# Altium footprint library HGH.PcbLib: 336 footprints (part 5 of 21)
Each footprint in its own frame and in the unit in brackets; x right, y up, seen from the top. Pads: shape width x height; smd on the part's side, far side on the other; paste and mask are expansions set on the pad; w line width, h text height; cw(c..) or ccw(c..) is an arc to the next point about the centre after c.
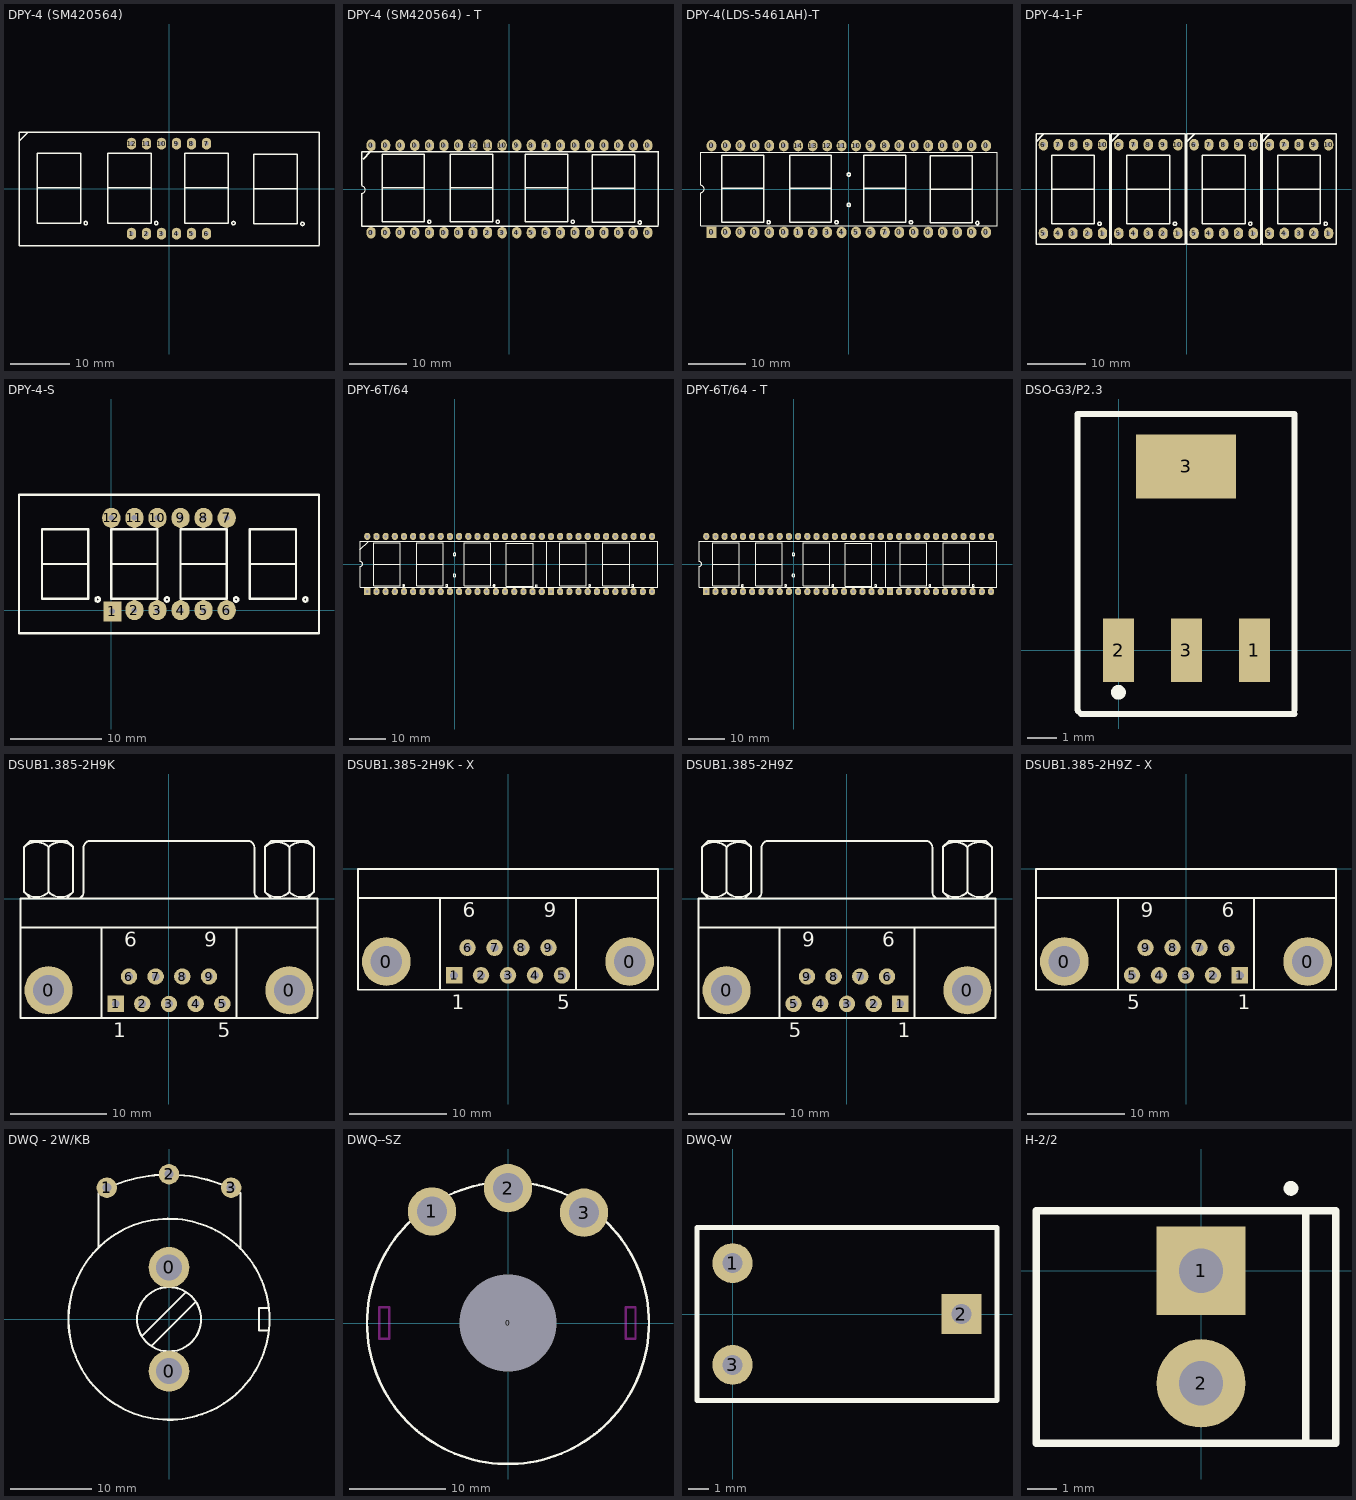
[diagram p4: the footprints below, top view; thin cyan lines are the x and y axes]

## DPY-4 (SM420564) [mm]
pads (12):
  oval 1.6x2 hole 0.7: 1(-6.35,-7.62) 2(-3.81,-7.62) 3(-1.27,-7.62) 4(1.27,-7.62) 5(3.81,-7.62) 6(6.35,-7.62) 7(6.35,7.62) 8(3.81,7.62) 9(1.27,7.62) 10(-1.27,7.62) 11(-3.81,7.62) 12(-6.35,7.62)
Top Overlay:
  circle w0.254: c22.606,-5.969 r0.284
  circle w0.254: c10.922,-5.842 r0.284
  circle w0.254: c-2.159,-5.842 r0.284
  circle w0.254: c-14.097,-5.842 r0.284
  lines w0.254: -25.273,8.128 -24.003,9.398 ; -22.352,0.127 -14.986,0.127 ; -10.414,0.127 -3.048,0.127 ; 2.667,0.127 10.033,0.127 ; 14.351,0 21.717,0 ; 25.4,-9.652 -25.4,-9.652 -25.4,9.525 25.4,9.525 25.4,-9.525 ; -22.352,-5.842 -14.986,-5.842 -14.986,5.969 -22.352,5.969 -22.352,-5.842 ; -10.414,-5.842 -3.048,-5.842 -3.048,5.969 -10.414,5.969 -10.414,-5.842 ; 2.667,-5.842 10.033,-5.842 10.033,5.969 2.667,5.969 2.667,-5.842 ; 14.351,-5.969 21.717,-5.969 21.717,5.842 14.351,5.842 14.351,-5.969

## DPY-4 (SM420564) - T [mm]
pads (40):
  oval 1.6x2 hole 0.7: 0(-24.13,-7.62) 0(-24.13,7.62) 0(-21.59,-7.62) 0(-21.59,7.62) 0(-19.05,-7.62) 0(-19.05,7.62) 0(-16.51,-7.62) 0(-16.51,7.62) 0(-13.97,-7.62) 0(-13.97,7.62) 0(-11.43,-7.62) 0(-11.43,7.62) 0(-8.89,-7.62) 0(-8.89,7.62) 0(8.89,-7.62) 0(8.89,7.62) 0(11.43,-7.62) 0(11.43,7.62) 0(13.97,-7.62) 0(13.97,7.62) 0(16.51,-7.62) 0(16.51,7.62) 0(19.05,-7.62) 0(19.05,7.62) 0(21.59,-7.62) 0(21.59,7.62) 0(24.13,-7.62) 0(24.13,7.62) 1(-6.35,-7.62) 2(-3.81,-7.62) 3(-1.27,-7.62) 4(1.27,-7.62) 5(3.81,-7.62) 6(6.35,-7.62) 7(6.35,7.62) 8(3.81,7.62) 9(1.27,7.62) 10(-1.27,7.62) 11(-3.81,7.62) 12(-6.35,7.62)
Top Overlay:
  circle w0.254: c22.733,-5.842 r0.284
  circle w0.254: c11.049,-5.715 r0.284
  circle w0.254: c-2.032,-5.715 r0.284
  circle w0.254: c-13.97,-5.715 r0.284
  lines w0.2: -25.781,-0.762 ccw(c-25.781,-0.127) -25.781,0.508
  lines w0.254: -25.781,-0.762 -25.781,-6.477 25.908,-6.477 ; -25.781,0.635 -25.781,6.477 25.908,6.477 ; -25.527,5.207 -24.257,6.477 ; -22.225,0.254 -14.859,0.254 ; -10.287,0.254 -2.921,0.254 ; 2.794,0.254 10.16,0.254 ; 14.478,0.127 21.844,0.127 ; 25.908,-6.35 25.908,6.604 ; -22.225,-5.715 -14.859,-5.715 -14.859,6.096 -22.225,6.096 -22.225,-5.715 ; -10.287,-5.715 -2.921,-5.715 -2.921,6.096 -10.287,6.096 -10.287,-5.715 ; 2.794,-5.715 10.16,-5.715 10.16,6.096 2.794,6.096 2.794,-5.715 ; 14.478,-5.842 21.844,-5.842 21.844,5.969 14.478,5.969 14.478,-5.842

## DPY-4(LDS-5461AH)-T [mm]
pads (40):
  rect 1.7x2 hole 0.7: 0(-24.13,-7.62)
  oval 1.7x2 hole 0.7: 0(-24.13,7.62) 0(-21.59,-7.62) 0(-21.59,7.62) 0(-19.05,-7.62) 0(-19.05,7.62) 0(-16.51,-7.62) 0(-16.51,7.62) 0(-13.97,-7.62) 0(-13.97,7.62) 0(-11.43,-7.62) 0(-11.43,7.62) 0(8.89,-7.62) 0(8.89,7.62) 0(11.43,-7.62) 0(11.43,7.62) 0(13.97,-7.62) 0(13.97,7.62) 0(16.51,-7.62) 0(16.51,7.62) 0(19.05,-7.62) 0(19.05,7.62) 0(21.59,-7.62) 0(21.59,7.62) 0(24.13,-7.62) 0(24.13,7.62) 1(-8.89,-7.62) 2(-6.35,-7.62) 3(-3.81,-7.62) 4(-1.27,-7.62) 5(1.27,-7.62) 6(3.81,-7.62) 7(6.35,-7.62) 8(6.35,7.62) 9(3.81,7.62) 10(1.27,7.62) 11(-1.27,7.62) 12(-3.81,7.62) 13(-6.35,7.62) 14(-8.89,7.62)
Top Overlay:
  circle w0.254: c0,-2.794 r0.284
  circle w0.254: c0,2.54 r0.284
  circle w0.254: c22.606,-5.969 r0.284
  circle w0.254: c10.922,-5.842 r0.284
  circle w0.254: c-2.159,-5.842 r0.284
  circle w0.254: c-14.097,-5.842 r0.284
  lines w0.2: -26.05,-6.45 -26.05,-0.635 ccw(c-26.05,0) -26.05,0.635 -26.05,6.45 26.05,6.45 26.05,-6.45 -26.05,-6.45
  lines w0.254: -22.352,0.127 -14.986,0.127 ; -10.414,0.127 -3.048,0.127 ; 2.667,0.127 10.033,0.127 ; 14.351,0 21.717,0 ; -22.352,-5.842 -14.986,-5.842 -14.986,5.969 -22.352,5.969 -22.352,-5.842 ; -10.414,-5.842 -3.048,-5.842 -3.048,5.969 -10.414,5.969 -10.414,-5.842 ; 2.667,-5.842 10.033,-5.842 10.033,5.969 2.667,5.969 2.667,-5.842 ; 14.351,-5.969 21.717,-5.969 21.717,5.842 14.351,5.842 14.351,-5.969

## DPY-4-1-F [mm]
pads (40):
  oval 1.6x2 hole 0.7: 1(-14.478,-7.62) 1(-1.524,-7.62) 1(11.43,-7.62) 1(24.384,-7.62) 2(-17.018,-7.62) 2(-4.064,-7.62) 2(8.89,-7.62) 2(21.844,-7.62) 3(-19.558,-7.62) 3(-6.604,-7.62) 3(6.35,-7.62) 3(19.304,-7.62) 4(-22.098,-7.62) 4(-9.144,-7.62) 4(3.81,-7.62) 4(16.764,-7.62) 5(-24.638,-7.62) 5(-11.684,-7.62) 5(1.27,-7.62) 5(14.224,-7.62) 6(-24.638,7.62) 6(-11.684,7.62) 6(1.27,7.62) 6(14.224,7.62) 7(-22.098,7.62) 7(-9.144,7.62) 7(3.81,7.62) 7(16.764,7.62) 8(-19.558,7.62) 8(-6.604,7.62) 8(6.35,7.62) 8(19.304,7.62) 9(-17.018,7.62) 9(-4.064,7.62) 9(8.89,7.62) 9(21.844,7.62) 10(-14.478,7.62) 10(-1.524,7.62) 10(11.43,7.62) 10(24.384,7.62)
Top Overlay:
  circle w0.254: c23.876,-5.969 r0.284
  circle w0.254: c-2.032,-5.969 r0.284
  circle w0.254: c-14.986,-5.969 r0.284
  circle w0.254: c10.922,-5.969 r0.284
  lines w0.254: -25.908,8.128 -24.638,9.398 ; -23.241,0 -15.875,0 ; -12.954,8.128 -11.684,9.398 ; -10.287,0 -2.921,0 ; 0,8.128 1.27,9.398 ; 2.667,0 10.033,0 ; 12.954,8.128 14.224,9.398 ; 15.621,0 22.987,0 ; -25.908,-9.525 -25.908,9.525 -13.208,9.525 -13.208,-9.525 -25.908,-9.525 ; -23.241,-5.969 -23.241,5.842 -15.875,5.842 -15.875,-5.969 -23.241,-5.969 ; -12.954,-9.525 -12.954,9.525 -0.254,9.525 -0.254,-9.525 -12.954,-9.525 ; -10.287,-5.969 -10.287,5.842 -2.921,5.842 -2.921,-5.969 -10.287,-5.969 ; 0,-9.525 0,9.525 12.7,9.525 12.7,-9.525 0,-9.525 ; 2.667,-5.969 2.667,5.842 10.033,5.842 10.033,-5.969 2.667,-5.969 ; 12.954,-9.525 12.954,9.525 25.654,9.525 25.654,-9.525 12.954,-9.525 ; 15.621,-5.969 15.621,5.842 22.987,5.842 22.987,-5.969 15.621,-5.969

## DPY-4-S [mm]
pads (12):
  rect 2x2.2 hole 0.6: 1(0.127,-0.127)
  oval 2x2.2 hole 0.6: 2(2.54,0) 3(5.08,0) 4(7.62,0) 5(10.16,0) 6(12.7,0) 7(12.7,10.16) 8(10.16,10.16) 9(7.62,10.16) 10(5.08,10.16) 11(2.54,10.16) 12(0,10.16)
Top Overlay:
  circle w0.254: c-1.5,1.175 r0.237
  circle w0.254: c6.12,1.175 r0.237
  circle w0.254: c13.74,1.175 r0.237
  circle w0.254: c21.36,1.175 r0.237
  lines w0.254: -7.62,5.08 -2.54,5.08 ; 0,5.08 5.08,5.08 ; 7.62,5.08 12.7,5.08 ; 15.24,5.08 20.32,5.08 ; -10.16,-2.54 22.86,-2.54 22.86,12.7 -7.62,12.7 -10.16,12.7 -10.16,-2.54 ; -7.62,1.27 -7.62,2.54 -7.62,8.89 -3.81,8.89 -2.54,8.89 -2.54,1.27 -3.81,1.27 -7.62,1.27 ; 0,1.27 3.81,1.27 5.08,1.27 5.08,8.89 3.81,8.89 0,8.89 0,2.54 0,1.27 ; 7.62,1.27 7.62,2.54 7.62,8.89 11.43,8.89 12.7,8.89 12.7,1.27 11.43,1.27 7.62,1.27 ; 15.24,1.27 15.24,2.54 15.24,8.89 19.05,8.89 20.32,8.89 20.32,1.27 19.05,1.27 15.24,1.27

## DPY-6T/64 [mm]
pads (64):
  rect 1.7x2 hole 0.8: 1(-24.13,-7.62) 21(26.67,-7.62)
  oval 1.7x2 hole 0.8: 2(-21.59,-7.62) 3(-19.05,-7.62) 4(-16.51,-7.62) 5(-13.97,-7.62) 6(-11.43,-7.62) 7(-8.89,-7.62) 8(-6.35,-7.62) 9(-3.81,-7.62) 10(-1.27,-7.62) 11(1.27,-7.62) 12(3.81,-7.62) 13(6.35,-7.62) 14(8.89,-7.62) 15(11.43,-7.62) 16(13.97,-7.62) 17(16.51,-7.62) 18(19.05,-7.62) 19(21.59,-7.62) 20(24.13,-7.62) 22(29.21,-7.62) 23(31.75,-7.62) 24(34.29,-7.62) 25(36.83,-7.62) 26(39.37,-7.62) 27(41.91,-7.62) 28(44.45,-7.62) 29(46.99,-7.62) 30(49.53,-7.62) 31(52.07,-7.62) 32(54.61,-7.62) 33(54.61,7.62) 34(52.07,7.62) 35(49.53,7.62) 36(46.99,7.62) 37(44.45,7.62) 38(41.91,7.62) 39(39.37,7.62) 40(36.83,7.62) 41(34.29,7.62) 42(31.75,7.62) 43(29.21,7.62) 44(26.67,7.62) 45(24.13,7.62) 46(21.59,7.62) 47(19.05,7.62) 48(16.51,7.62) 49(13.97,7.62) 50(11.43,7.62) 51(8.89,7.62) 52(6.35,7.62) 53(3.81,7.62) 54(1.27,7.62) 55(-1.27,7.62) 56(-3.81,7.62) 57(-6.35,7.62) 58(-8.89,7.62) 59(-11.43,7.62) 60(-13.97,7.62) 61(-16.51,7.62) 62(-19.05,7.62) 63(-21.59,7.62) 64(-24.13,7.62)
Top Overlay:
  circle w0.254: c37.338,-5.969 r0.284
  circle w0.254: c49.276,-5.969 r0.284
  circle w0.254: c0,-3.175 r0.402
  circle w0.254: c0,2.667 r0.381
  circle w0.254: c22.606,-6.096 r0.284
  circle w0.254: c10.922,-5.969 r0.284
  circle w0.254: c-2.159,-5.969 r0.284
  circle w0.254: c-14.097,-5.969 r0.284
  lines w0.2: 25.527,-6.35 25.527,6.35 ; 56.134,-6.477 -26.05,-6.45 -26.05,-0.635 ccw(c-26.05,0) -26.05,0.635 -26.035,6.35 56.261,6.35 56.261,-6.35
  lines w0.254: -26.162,3.937 -23.749,6.35 ; -22.352,0 -14.986,0 ; -10.414,0 -3.048,0 ; 2.667,0 10.033,0 ; 14.351,-0.127 21.717,-0.127 ; 29.083,0 36.449,0 ; 41.021,0 48.387,0 ; -22.352,-5.969 -14.986,-5.969 -14.986,5.842 -22.352,5.842 -22.352,-5.969 ; -10.414,-5.969 -3.048,-5.969 -3.048,5.842 -10.414,5.842 -10.414,-5.969 ; 2.667,-5.969 10.033,-5.969 10.033,5.842 2.667,5.842 2.667,-5.969 ; 14.351,-6.096 21.717,-6.096 21.717,5.715 14.351,5.715 14.351,-6.096 ; 29.083,-5.969 29.083,5.842 36.449,5.842 36.449,-5.969 29.083,-5.969 ; 41.021,-5.969 41.021,5.842 48.387,5.842 48.387,-5.969 41.021,-5.969

## DPY-6T/64 - T [mm]
pads (64):
  rect 1.7x2 hole 0.8: 0(-24.13,-7.62) 0(26.67,-7.62)
  oval 1.7x2 hole 0.8: 0(-24.13,7.62) 0(-21.59,-7.62) 0(-21.59,7.62) 0(-19.05,-7.62) 0(-19.05,7.62) 0(-16.51,-7.62) 0(-16.51,7.62) 0(-13.97,-7.62) 0(-13.97,7.62) 0(-11.43,-7.62) 0(-11.43,7.62) 0(8.89,-7.62) 0(8.89,7.62) 0(11.43,-7.62) 0(11.43,7.62) 0(13.97,-7.62) 0(13.97,7.62) 0(16.51,-7.62) 0(16.51,7.62) 0(19.05,-7.62) 0(19.05,7.62) 0(21.59,-7.62) 0(21.59,7.62) 0(24.13,-7.62) 0(24.13,7.62) 0(26.67,7.62) 0(29.21,-7.62) 0(29.21,7.62) 0(44.45,-7.62) 0(44.45,7.62) 0(46.99,-7.62) 0(46.99,7.62) 0(49.53,-7.62) 0(49.53,7.62) 0(52.07,-7.62) 0(52.07,7.62) 0(54.61,-7.62) 0(54.61,7.62) 7(-8.89,-7.62) 8(-6.35,-7.62) 9(-3.81,-7.62) 10(-1.27,-7.62) 11(1.27,-7.62) 12(3.81,-7.62) 13(6.35,-7.62) 23(31.75,-7.62) 24(34.29,-7.62) 25(36.83,-7.62) 26(39.37,-7.62) 27(41.91,-7.62) 38(41.91,7.62) 39(39.37,7.62) 40(36.83,7.62) 41(34.29,7.62) 42(31.75,7.62) 52(6.35,7.62) 53(3.81,7.62) 54(1.27,7.62) 55(-1.27,7.62) 56(-3.81,7.62) 57(-6.35,7.62) 58(-8.89,7.62)
Top Overlay:
  circle w0.254: c22.703,-5.969 r0.284
  circle w0.254: c-14.127,-5.969 r0.284
  circle w0.254: c-2.189,-5.969 r0.284
  circle w0.254: c10.892,-5.969 r0.284
  circle w0.254: c-0.03,2.667 r0.381
  circle w0.254: c-0.03,-3.175 r0.402
  circle w0.254: c37.719,-5.969 r0.284
  circle w0.254: c49.657,-5.969 r0.284
  lines w0.2: 25.527,-6.35 25.527,6.35 ; 56.134,-6.477 -26.05,-6.45 -26.05,-0.635 ccw(c-26.05,0) -26.05,0.635 -26.035,6.35 56.261,6.35 56.261,-6.35
  lines w0.254: -22.382,0 -15.016,0 ; -10.444,0 -3.078,0 ; 2.637,0 10.003,0 ; 14.321,-0.127 21.687,-0.127 ; 29.464,0 36.83,0 ; 41.402,0 48.768,0 ; -22.382,-5.969 -22.382,5.842 -15.016,5.842 -15.016,-5.969 -22.382,-5.969 ; -10.444,-5.969 -10.444,5.842 -3.078,5.842 -3.078,-5.969 -10.444,-5.969 ; 2.637,-5.969 2.637,5.842 10.003,5.842 10.003,-5.969 2.637,-5.969 ; 14.321,-6.096 14.321,5.715 21.687,5.715 21.687,-6.096 14.321,-6.096 ; 29.464,-5.969 29.464,5.842 36.83,5.842 36.83,-5.969 29.464,-5.969 ; 41.402,-5.969 41.402,5.842 48.768,5.842 48.768,-5.969 41.402,-5.969

## DSO-G3/P2.3 [mm]
pads (4):
  rect 1.05x2.159 smd: 1(4.6,0) 2(0,0) 3(2.3,0)
  rect 3.4x2.159 smd: 3(2.286,6.223)
Top Overlay:
  circle w0.25: c0,-1.425 r0.125
  lines w0.203: 5.969,-2.159 -1.27,-2.159 -1.397,-2.032 -1.397,8.001 5.969,8.001 5.969,-2.032

## DSUB1.385-2H9K [mm]
pads (11):
  round 5 hole 3.2: 0(-12.495,-9.5) 0(12.495,-9.5)
  rect 1.7x1.7 hole 0.8: 1(-5.54,-10.92)
  round 1.7 hole 0.8: 2(-2.77,-10.92) 3(0,-10.922) 4(2.77,-10.92) 5(5.54,-10.92) 6(-4.155,-8.08) 7(-1.385,-8.08) 8(1.385,-8.08) 9(4.155,-8.08)
Top Overlay:
  lines w0.2: -15.4,-3 15.4,-3 ; -15.038,5.35 -15.038,0.699 -14.403,0.064 ; -15.038,5.365 -14.403,6 -10.593,6 -9.958,5.365 ; -12.498,0.699 -12.498,5.35 ; -10.593,0.064 -9.958,0.699 -9.958,5.35 ; -9.958,4.086 -9.958,4.298 ; -9.56,0.005 ccw(c-9.56,0.7) -8.865,0.7 -8.865,5.3 ; -8.86,5.305 cw(c-8.165,5.305) -8.165,6 8.165,6 cw(c8.165,5.305) 8.86,5.305 ; -7,-12.4 -7,-3 ; 7,-12.4 7,-3 ; 8.865,5.3 8.865,0.7 ccw(c9.56,0.7) 9.56,0.005 ; 9.962,5.35 9.962,0.699 10.597,0.064 ; 9.962,5.365 10.597,6 14.407,6 15.042,5.365 ; 12.502,0.699 12.502,5.35 ; 14.407,0.064 15.042,0.699 15.042,5.35 ; 15.042,4.086 15.042,4.298 ; -15.4,-12.4 -15.4,0 15.4,0 15.4,-12.4 -15.4,-12.4
  lines w0.203: -15.04,0.697 ccw(c-13.768,1.969) -12.496,0.697 ; -15.038,5.35 cw(c-13.766,4.078) -12.493,5.35 ; -12.502,5.35 cw(c-11.23,4.078) -9.958,5.35 ; -12.5,0.697 ccw(c-11.228,1.969) -9.956,0.697 ; 9.96,0.697 ccw(c11.232,1.969) 12.504,0.697 ; 9.962,5.35 cw(c11.234,4.078) 12.507,5.35 ; 12.498,5.35 cw(c13.77,4.078) 15.042,5.35 ; 12.5,0.697 ccw(c13.772,1.969) 15.044,0.697
  text "1" at -5.79,-14.375 h1.5
  text "5" at 5.04,-14.375 h1.5
  text "9" at 3.655,-4.975 h1.5
  text "6" at -4.655,-4.975 h1.5

## DSUB1.385-2H9K - X [mm]
pads (11):
  round 5 hole 3.2: 0(-12.495,-9.502) 0(12.495,-9.502)
  rect 1.7x1.7 hole 0.8: 1(-5.54,-10.92)
  round 1.7 hole 0.8: 2(-2.77,-10.92) 3(0,-10.922) 4(2.77,-10.92) 5(5.54,-10.92) 6(-4.155,-8.08) 7(-1.385,-8.08) 8(1.385,-8.08) 9(4.155,-8.08)
Top Overlay:
  lines w0.2: -15.4,-3 15.4,-3 ; -7,-12.4 -7,-3 ; 7,-12.4 7,-3 ; -15.4,-12.4 -15.4,0 15.4,0 15.4,-12.4 -15.4,-12.4
  text "1" at -5.79,-14.375 h1.5
  text "5" at 5.04,-14.375 h1.5
  text "9" at 3.655,-4.975 h1.5
  text "6" at -4.655,-4.975 h1.5

## DSUB1.385-2H9Z [mm]
pads (11):
  round 5 hole 3.2: 0(-12.495,-9.5) 0(12.495,-9.5)
  rect 1.7x1.7 hole 0.8: 1(5.54,-10.92)
  round 1.7 hole 0.8: 2(2.77,-10.92) 3(0,-10.92) 4(-2.77,-10.92) 5(-5.54,-10.92) 6(4.155,-8.08) 7(1.385,-8.08) 8(-1.385,-8.08) 9(-4.155,-8.08)
Top Overlay:
  lines w0.2: -15.4,-3 15.4,-3 ; -15.038,5.35 -15.038,0.699 -14.403,0.064 ; -15.038,5.365 -14.403,6 -10.593,6 -9.958,5.365 ; -12.498,0.699 -12.498,5.35 ; -10.593,0.064 -9.958,0.699 -9.958,5.35 ; -9.958,4.086 -9.958,4.298 ; -9.56,0.005 ccw(c-9.56,0.7) -8.865,0.7 -8.865,5.3 ; -8.86,5.305 cw(c-8.165,5.305) -8.165,6 8.165,6 cw(c8.165,5.305) 8.86,5.305 ; -7,-12.4 -7,-3 ; 7,-12.4 7,-3 ; 8.865,5.3 8.865,0.7 ccw(c9.56,0.7) 9.56,0.005 ; 9.962,5.35 9.962,0.699 10.597,0.064 ; 9.962,5.365 10.597,6 14.407,6 15.042,5.365 ; 12.502,0.699 12.502,5.35 ; 14.407,0.064 15.042,0.699 15.042,5.35 ; 15.042,4.086 15.042,4.298 ; -15.4,-12.4 -15.4,0 15.4,0 15.4,-12.4 -15.4,-12.4
  lines w0.203: -15.04,0.697 ccw(c-13.768,1.969) -12.496,0.697 ; -15.038,5.35 cw(c-13.766,4.078) -12.493,5.35 ; -12.502,5.35 cw(c-11.23,4.078) -9.958,5.35 ; -12.5,0.697 ccw(c-11.228,1.969) -9.956,0.697 ; 9.96,0.697 ccw(c11.232,1.969) 12.504,0.697 ; 9.962,5.35 cw(c11.234,4.078) 12.507,5.35 ; 12.498,5.35 cw(c13.77,4.078) 15.042,5.35 ; 12.5,0.697 ccw(c13.772,1.969) 15.044,0.697
  text "6" at 3.655,-4.975 h1.5
  text "1" at 5.29,-14.375 h1.5
  text "5" at -6.04,-14.375 h1.5
  text "9" at -4.655,-4.975 h1.5

## DSUB1.385-2H9Z - X [mm]
pads (11):
  round 5 hole 3.2: 0(-12.495,-9.502) 0(12.495,-9.502)
  rect 1.7x1.7 hole 0.8: 1(5.54,-10.922)
  round 1.7 hole 0.8: 2(2.77,-10.922) 3(0,-10.922) 4(-2.77,-10.922) 5(-5.54,-10.922) 6(4.155,-8.082) 7(1.385,-8.082) 8(-1.385,-8.082) 9(-4.155,-8.082)
Top Overlay:
  lines w0.2: -15.4,-3 15.4,-3 ; -7,-12.4 -7,-3 ; 7,-12.4 7,-3 ; -15.4,-12.4 15.4,-12.4 15.4,0 -15.4,0 -15.4,-12.4
  text "9" at -4.655,-4.975 h1.5
  text "5" at -6.04,-14.375 h1.5
  text "1" at 5.29,-14.375 h1.5
  text "6" at 3.655,-4.975 h1.5

## DWQ - 2W/KB [mm]
pads (5):
  round 5 hole 3.2: 0(0,-6.35) 0(0,6.35)
  round 2.5 hole 1.1: 1(-7.62,16.129) 2(0,17.78) 3(7.62,16.129)
Top Overlay:
  circle w0.254: c0,0 r3.937
  circle w0.254: c0,0 r12.319
  lines w0.254: -8.636,8.763 -8.636,15.494 cw(c0,0) 8.732,15.44 ; -3.302,-2.032 2.032,3.302 ; -2.159,-3.302 3.175,2.032 ; 8.763,8.636 8.763,15.494 ; 12.192,-1.397 11.049,-1.397 11.049,1.397 12.192,1.397

## DWQ--SZ [mm]
pads (4):
  round 1 hole 10: 0(0,0)
  round 5 hole 3.1: 1(-7.874,11.557) 2(0,13.97) 3(7.874,11.43)
Top Overlay:
  circle w0.254: c0,0 r14.605
Keep-Out Layer:
  lines w0.254: -12.319,-1.651 -13.335,-1.651 -13.335,1.651 -12.319,1.651 -12.319,-1.524 ; 13.208,-1.651 12.192,-1.651 12.192,1.651 13.208,1.651 13.208,-1.524

## DWQ-W [mm]
pads (3):
  round 2 hole 1: 1(0,2.54) 3(0,-2.54)
  rect 2x2 hole 1: 2(11.43,0)
Top Overlay:
  lines w0.254: -1.778,-4.318 13.208,-4.318 13.208,4.318 -1.778,4.318 -1.778,-4.318

## H-2/2 [mm]
pads (2):
  rect 3x3 hole 1.5: 1(0,0)
  round 3 hole 1.5: 2(0,-3.81)
Top Overlay:
  circle w0.25: c3.048,2.792 r0.125
  lines w0.254: 3.556,-5.842 3.556,2.032 ; -5.588,-5.842 -5.588,2.032 4.572,2.032 4.572,-5.842 -5.588,-5.842